# Altium schematic symbol library FET.SchLib: 6 symbols
Pins are listed as number, name and electrical type; pins without a type are passive.

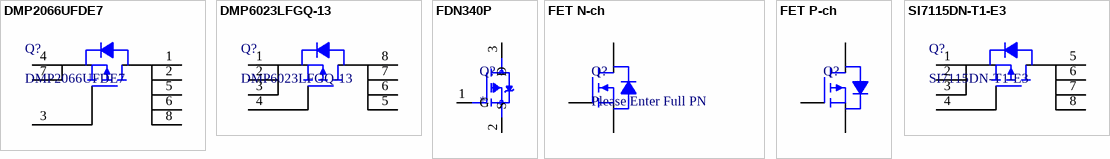
[diagram p0: symbols DMP2066UFDE7 to SI7115DN-T1-E3]

## DMP2066UFDE7
designator Q?
No Description Available; Mfr_Name: Diodes Inc; Manufacturer_Part_Number: DMP6023LFGQ-13; Type: DEV; Copyright: Copyright (C) 2022 Ultra Librarian. All rights reserved.; RefDes: RefDes; Full Part Number: DMP6023LFGQ-13
footprint DMP2066UFDE7
pins: 1 G, 1 S, 2 D, 2 S, 3 S, 3 S, 4 G, 5 D, 6 D, 7 D, 8 D

## DMP6023LFGQ-13
designator Q?
No Description Available; Mfr_Name: Diodes Inc; Type: DEV; Copyright: Copyright (C) 2022 Ultra Librarian. All rights reserved.; Manufacturer_Part_Number: DMP6023LFGQ-13; RefDes: RefDes; Full Part Number: DMP6023LFGQ-13
footprint POWERDI3333-8
pins: 1 G, 1 S, 2 D, 2 S, 3 S, 3 S, 4 G, 5 D, 6 D, 7 D, 8 D

## FDN340P
designator Q?
FDN340P Series 20V 70 mOhm Single P-Ch Logic Level PowerTrench Mosfet SSOT-3; Price: None; MP: FDN340P; Availability: Unavailable; Value: *; Package: None
footprint SOT95P240X120-3N
pins: 1 G, 2 S, 3 D

## FET N-ch
designator Q?, comment Please Enter Full PN
Please enter description; Full Part Number: Please Enter Full PN; Value: Please Enter Full PN
footprint DIRECTFET-L8-V
pins: 1 G, 2 D, 3 S

## FET P-ch
designator Q?
footprint DPAK_TO-252AA
pins: 1 G, 2 D, 3 S

## SI7115DN-T1-E3
designator Q?
No Description Available; Mfr_Name: Vishay; Type: DEV; Copyright: Copyright (C) 2022 Ultra Librarian. All rights reserved.; Manufacturer_Part_Number: SI7115DN-T1-E3; RefDes: RefDes
footprint POWERPAK_1212-8
pins: 1 G, 1 S, 2 D, 2 S, 3 S, 3 S, 4 G, 5 D, 6 D, 7 D, 8 D